# Altium footprint library Vowstar_Touch_Pad.PcbLib: 12 footprints
Each footprint in its own frame and in the unit in brackets; x right, y up, seen from the top. Pads: shape width x height; smd on the part's side, far side on the other; paste and mask are expansions set on the pad; w line width, h text height; cw(c..) or ccw(c..) is an arc to the next point about the centre after c.
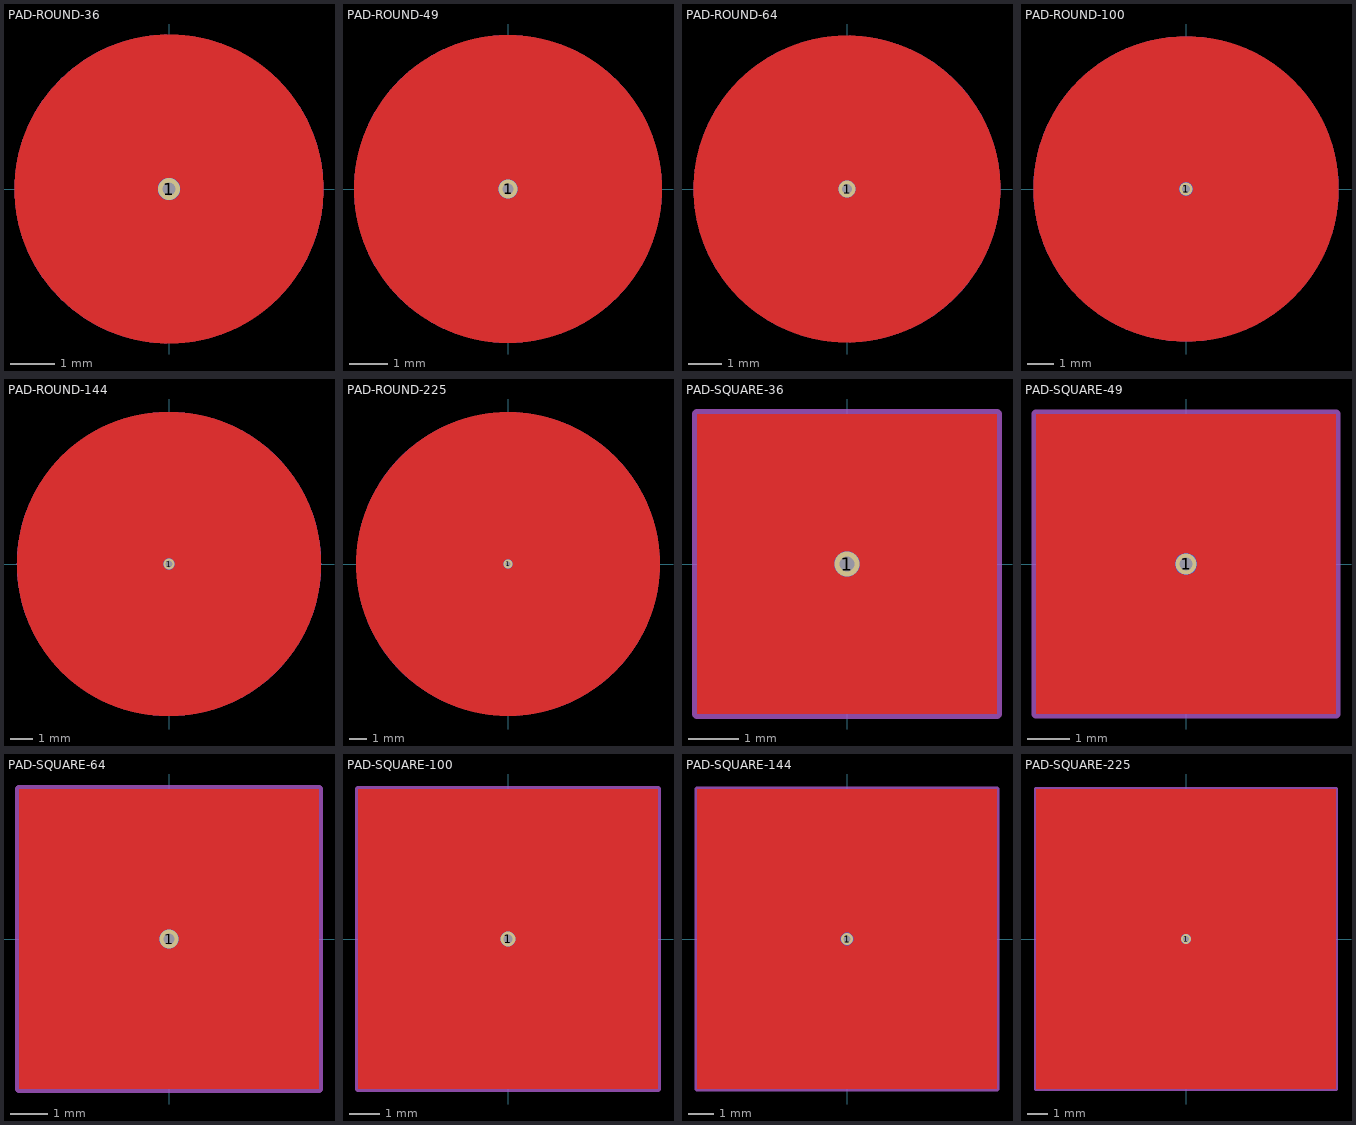
[diagram p0: the footprints below, top view; thin cyan lines are the x and y axes]

## PAD-ROUND-36 [mm] "PAD-ROUND-36,R=3.385mm"
pads (1):
  round 0.5 smd far side: 1(0,0)
via 0,0 diameter 0.5 hole 0.3
Top Layer:
  circle w6.77: c0,0 r0.1
Mechanical 13:
  circle w0.203: c0,0 r3.385

## PAD-ROUND-49 [mm] "PAD-ROUND-49,R=3.949mm"
pads (1):
  round 0.5 smd far side: 1(0,0)
via 0,0 diameter 0.5 hole 0.3
Top Layer:
  circle w7.899: c0,0 r0.1
Mechanical 13:
  circle w0.203: c0,0 r3.949

## PAD-ROUND-64 [mm] "PAD-ROUND-64,R=4.514mm"
pads (1):
  round 0.5 smd far side: 1(0,0)
via 0,0 diameter 0.5 hole 0.3
Top Layer:
  circle w9.027: c0,0 r0.1
Mechanical 13:
  circle w0.203: c0,0 r4.514

## PAD-ROUND-100 [mm] "PAD-ROUND-100,R=5.642mm"
pads (1):
  round 0.5 smd far side: 1(0,0)
via 0,0 diameter 0.5 hole 0.3
Top Layer:
  circle w11.284: c0,0 r0.1
Mechanical 13:
  circle w0.203: c0,0 r5.642

## PAD-ROUND-144 [mm] "PAD-ROUND-144,R=6.770mm"
pads (1):
  round 0.5 smd far side: 1(0,0)
via 0,0 diameter 0.5 hole 0.3
Top Layer:
  circle w13.54: c0,0 r0.1
Mechanical 13:
  circle w0.203: c0,0 r6.77

## PAD-ROUND-225 [mm] "PAD-ROUND-225,R=8.463mm"
pads (1):
  round 0.5 smd far side: 1(0,0)
via 0,0 diameter 0.5 hole 0.3
Top Layer:
  circle w16.926: c0,0 r0.1
Mechanical 13:
  circle w0.203: c0,0 r8.463

## PAD-SQUARE-36 [mm] "PAD-SQUARE-36,L=6mm"
pads (1):
  round 0.5 smd far side: 1(0,0)
via 0,0 diameter 0.5 hole 0.3
Top Layer:
  rectangle: -3,-3 3,3
Mechanical 13:
  lines w0.203: -3,-3 -3,3 3,3 3,-3 -3,-3

## PAD-SQUARE-49 [mm] "PAD-SQUARE-49,L=7mm"
pads (1):
  round 0.5 smd far side: 1(0,0)
via 0,0 diameter 0.5 hole 0.3
Top Layer:
  rectangle: -3.5,-3.5 3.5,3.5
Mechanical 13:
  lines w0.203: -3.5,-3.5 3.5,-3.5 3.5,3.5 -3.5,3.5 -3.5,-3.5

## PAD-SQUARE-64 [mm] "PAD-SQUARE-64,L=8mm"
pads (1):
  round 0.5 smd far side: 1(0,0)
via 0,0 diameter 0.5 hole 0.3
Top Layer:
  rectangle: -4,-4 4,4
Mechanical 13:
  lines w0.203: -4,-4 4,-4 4,4 -4,4 -4,-4

## PAD-SQUARE-100 [mm] "PAD-SQUARE-100,L=10mm"
pads (1):
  round 0.5 smd far side: 1(0,0)
via 0,0 diameter 0.5 hole 0.3
Top Layer:
  rectangle: -5,-5 5,5
Mechanical 13:
  lines w0.203: -5,-5 -5,5 5,5 5,-5 -5,-5

## PAD-SQUARE-144 [mm] "PAD-SQUARE-144,L=12mm"
pads (1):
  round 0.5 smd far side: 1(0,0)
via 0,0 diameter 0.5 hole 0.3
Top Layer:
  rectangle: -6,-6 6,6
Mechanical 13:
  lines w0.203: -6,-6 6,-6 6,6 -6,6 -6,-6

## PAD-SQUARE-225 [mm] "PAD-SQUARE-225,L=15mm"
pads (1):
  round 0.5 smd far side: 1(0,0)
via 0,0 diameter 0.5 hole 0.3
Top Layer:
  rectangle: -7.5,-7.5 7.5,7.5
Mechanical 13:
  lines w0.203: -7.5,-7.5 7.5,-7.5 7.5,7.5 -7.5,7.5 -7.5,-7.5